# Altium schematic symbol library SCH - DRIVER - LED - TI UCC28811_D_8.SchLib: 1 symbol
Pins are listed as number, name and electrical type; pins without a type are passive.

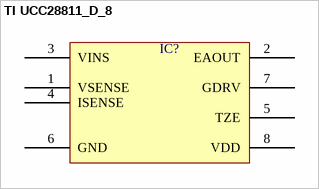
[diagram p0: symbol TI UCC28811_D_8]

## TI UCC28811_D_8
designator IC?  (value not drawn)
pins: 1 VSENSE, 2 EAOUT, 3 VINS, 4 ISENSE, 5 TZE, 6 GND, 7 GDRV, 8 VDD